# Altium schematic symbol library UWRT Schematic Library.SchLib: 510 symbols (part 1 of 5)
Pins are listed as number, name and electrical type; pins without a type are passive.

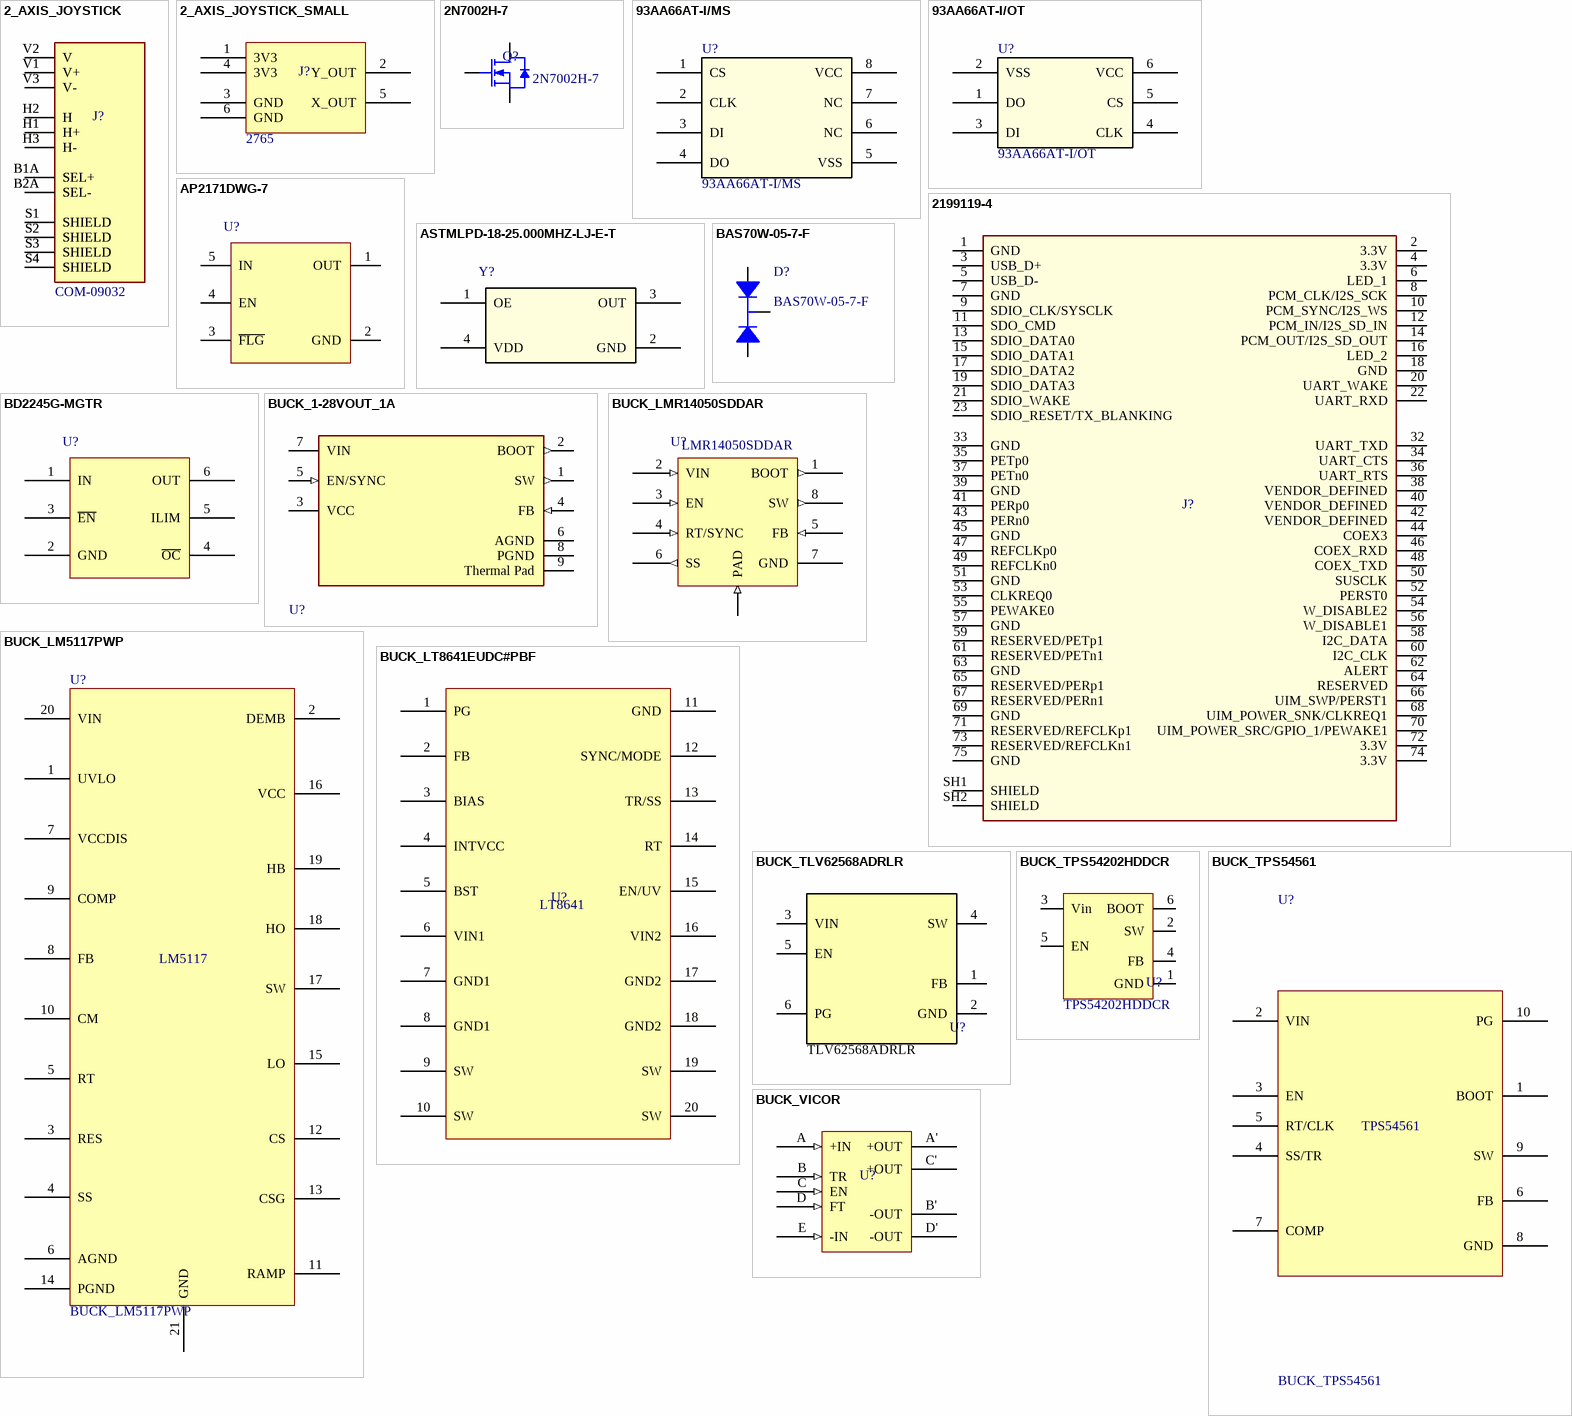
[diagram p0: symbols 2_AXIS_JOYSTICK to BUCK_VICOR]

## 2_AXIS_JOYSTICK
designator J?  Manufacturer Part Number 1: COM-09032
JOYSTICK 10K OHM 2 AXIS TH; Manufacturer 1: SparkFun; Supplier 1: Digi-Key; Supplier Part Number 1: 1568-1526-ND; Verified: No; Mounting Type: TH; Package/Footprint: TH; LCSC Part #: *
footprint 2_AXIS_JOYSTICK
pins: B1A SEL+, B1A SEL+, B2A SEL-, B2A SEL-, H1 H+, H1 H+, H2 H, H2 H, H3 H-, H3 H-, S1 SHIELD, S1 SHIELD, S2 SHIELD, S2 SHIELD, S3 SHIELD, S3 SHIELD, S4 SHIELD, S4 SHIELD, V1 V+, V1 V+, V2 V, V2 V, V3 V-, V3 V-

## 2_AXIS_JOYSTICK_SMALL
designator J?  Manufacturer Part Number 1: 2765  (hidden comment: 2_AXIS_JOYSTICK_SMALL)
JOYSTICK 10K OHM 2 AXIS TH; Manufacturer 1: Adafruit Industries LLC; Supplier 1: Digi-Key; Mounting Type: TH; Supplier Part Number 1: 1528-1730-ND; Package/Footprint: TH
footprint 2_AXIS_JOYSTICK_SMALL
pins: 1 3V3, 2 Y_OUT, 3 GND, 4 3V3, 5 X_OUT, 6 GND

## 2N7002H-7
designator Q?  Manufacturer Part Number 1: 2N7002H-7
MOSFET N-CH 60V 170MA SOT23; Manufacturer 1: Diodes Incorporated; Package/Footprint: SOT-23; Vgs (Max): ±20V; Supplier 1: Digi-Key; Mounting Type: SMD; Supplier Part Number 1: 2N7002H-7DICT-ND; Id: 170mA; Vdss: 60V; Verified: No
footprint SOT23-3 (SOT23, 3-Leads, Body 2.90x2.30mm, Pitch 0.95mm, IPC Medium Density)
pins: 1 GATE, 2 SOURCE, 3 DRAIN

## 93AA66AT-I/MS
designator U?  Manufacturer Part Number 1: 93AA66AT-I/MS
IC EEPROM 4KBIT SPI 2MHZ 8MSOP; Manufacturer 1: Microchip Technology; Supplier 1: Digi-Key; Supplier Part Number 1: 93AA66AT-I/MS-ND
footprint MSOP8_MC_MCH
pins: 1 CS, 2 CLK, 3 DI, 4 DO, 5 VSS, 6 NC, 7 NC, 8 VCC

## 93AA66AT-I/OT
designator U?  Manufacturer Part Number 1: 93AA66AT-I/OT
IC EEPROM 4KBIT SPI 2MHZ SOT23-6; Manufacturer 1: Microchip Technology; Supplier 1: Digi-Key; Supplier Part Number 1: 93AA66AT-I/OTCT-ND
footprint SOT-23-6_MC_MCH
pins: 1 DO, 2 VSS, 3 DI, 4 CLK, 5 CS, 6 VCC

## 2199119-4
designator J?
CONN M.2 FEMALE 67POS 0.020 GOLD; Manufacturer 1: TE Connectivity; Manufacturer Part Number 1: 2199119-4; Number of Positions: 67; Pitch: 0.020" (0.50mm); Supplier 1: Digi-Key; Supplier Part Number 1: A115900CT-ND; Gender: Female
footprint TE_2199119-4
pins: 1 GND, 2 3.3V, 3 USB_D+, 4 3.3V, 5 USB_D-, 6 LED_1, 7 GND, 8 PCM_CLK/I2S_SCK, 9 SDIO_CLK/SYSCLK, 10 PCM_SYNC/I2S_WS, 11 SDO_CMD, 12 PCM_IN/I2S_SD_IN, 13 SDIO_DATA0, 14 PCM_OUT/I2S_SD_OUT, 15 SDIO_DATA1, 16 LED_2, 17 SDIO_DATA2, 18 GND, 19 SDIO_DATA3, 20 UART_WAKE, 21 SDIO_WAKE, 22 UART_RXD, 23 SDIO_RESET/TX_BLANKING, 32 UART_TXD, 33 GND, 34 UART_CTS, 35 PETp0, 36 UART_RTS, 37 PETn0, 38 VENDOR_DEFINED, 39 GND, 40 VENDOR_DEFINED, 41 PERp0, 42 VENDOR_DEFINED, 43 PERn0, 44 COEX3, 45 GND, 46 COEX_RXD, 47 REFCLKp0, 48 COEX_TXD, 49 REFCLKn0, 50 SUSCLK, 51 GND, 52 PERST0, 53 CLKREQ0, 54 W_DISABLE2, 55 PEWAKE0, 56 W_DISABLE1, 57 GND, 58 I2C_DATA, 59 RESERVED/PETp1, 60 I2C_CLK, 61 RESERVED/PETn1, 62 ALERT, 63 GND, 64 RESERVED, 65 RESERVED/PERp1, 66 UIM_SWP/PERST1, 67 RESERVED/PERn1, 68 UIM_POWER_SNK/CLKREQ1, 69 GND, 70 UIM_POWER_SRC/GPIO_1/PEWAKE1, 71 RESERVED/REFCLKp1, 72 3.3V, 73 RESERVED/REFCLKn1, 74 3.3V, 75 GND, SH1 SHIELD, SH2 SHIELD

## AP2171DWG-7
designator U?
IC PWR SWITCH P-CHAN 1:1 SOT25; Manufacturer 1: Diodes Incorporated; Manufacturer Part Number 1: AP2171DWG-7; Voltage - Load: 2.7V - 5.5V; Current - Output (Max): 1A; Rds On (Typ): 95mOhm; Supplier 1: Digi-Key; Supplier Part Number 1: AP2171DWG-7DICT-ND; Package: SOT-25
footprint AP2171DWG-7
pins: 1 OUT, 2 GND, 3 ~{FLG}, 4 EN, 5 IN

## ASTMLPD-18-25.000MHZ-LJ-E-T
designator Y?
MEMS OSC XO 25.0000MHZ LVCMOS; Manufacturer 1: Abracon; Manufacturer Part Number 1: ASTMLPD-18-25.000MHZ-LJ-E-T; Supplier 1: Digi-Key; Supplier Part Number 1: 535-13096-1-ND
footprint ASTMLPE_ABR
pins: 1 OE, 2 GND, 3 OUT, 4 VDD

## BAS70W-05-7-F
designator D?  Manufacturer Part Number 1: BAS70W-05-7-F
DIODE ARRAY SCHOTTKY 70V SOT323; Manufacturer 1: Diodes Incorporated; Diode Configuration: 1 Pair Common Cathode; Current - Average Rectified (Io) (per diode): 70mA; Voltage - Forward (Vf) (Max) @ If: 1V @ 15mA; Current - Reverse Leakage @ Vr: 100nA @ 50V; Supplier 1: Digi-Key; Supplier Part Number 1: BAS70W-05FDICT-ND; Diode Type: Schottky; Package: SOT-323; Voltage - DC Reverse (Vr) (Max): 70V
footprint SOT323_BAS70W-05-7-F
pins: 1, 2, 3

## BD2245G-MGTR
designator U?
IC PWR SWITCH N-CHAN 1:1 6SSOP; Manufacturer 1: Rohm Semiconductor; Manufacturer Part Number 1: BD2245G-MGTR; Voltage - Load: 2.8V - 5.5V; Current - Output (Max): 1.7A; Rds On (Typ): 100mOhm; Supplier 1: Digi-Key; Supplier Part Number 1: BD2245G-MGCT-ND; Package: SOT23-6
footprint BD2245G-MGTR
pins: 1 IN, 2 GND, 3 ~{EN}, 4 ~{OC}, 5 ILIM, 6 OUT

## BUCK_1-28VOUT_1A
designator U?  (value not drawn)
IC REG BUCK ADJUSTABLE 1A 8SOPWR; Manufacturer 1: Texas Instruments; Manufacturer Part Number 1: LMR23610ADDAR; Supplier 1: Digi-Key; Supplier Part Number 1: 296-47267-1-ND
footprint 8-SO PowerPad
pins: 1 SW (out), 2 BOOT (out), 3 VCC (power), 4 FB (in), 5 EN/SYNC (in), 6 AGND (power), 7 VIN (power), 8 PGND (power), 9 Thermal Pad (power)

## BUCK_LM5117PWP
designator U?
IC REG CTRLR BUCK 20TSSOP; Manufacturer 1: Texas Instruments; Manufacturer Part Number 1: LM5117PMH/NOPB; Package/Footprint: 20-HTSSOP; Mounting Type: SMD; Supplier 1: Digi-Key; Supplier Part Number 1: 296-41310-1-ND
footprint HTSSOP
pins: 1 UVLO, 2 DEMB, 3 RES, 4 SS, 5 RT, 6 AGND, 7 VCCDIS, 8 FB, 9 COMP, 10 CM, 11 RAMP, 12 CS, 13 CSG, 14 PGND, 15 LO, 16 VCC, 17 SW, 18 HO, 19 HB, 20 VIN, 21 GND
text: LM5117

## BUCK_LMR14050SDDAR
designator U?  Manufacturer Part Number 1: LMR14050SDDAR  (hidden comment: BUCK_LMR14050SDDAR)
IC REG BUCK ADJUSTABLE 5A 8SOPWR; Manufacturer 1: Texas Instruments; Output Configuration: Positive; Quiescent Current: 40uA; Package/Footprint: 8-PowerSOIC; Supplier 1: Digi-Key; Mounting Type: SMD; Output Type: Adjustable; Supplier Part Number 1: 296-44322-1-ND; LCSC Part #: C155484
footprint 8-PowerSOIC (Texas Instruments 8-SO PowerPad)
pins: 1 BOOT (out), 2 VIN (in), 3 EN (in), 4 RT/SYNC (in), 5 FB (in), 6 SS (out), 7 GND (power), 8 SW (out), 9 PAD (in) "Thermal Pad, connect to GND"

## BUCK_LT8641EUDC#PBF
designator U?  (value not drawn)
IC REG BUCK ADJ 3.5A 20QFN; Manufacturer 1: Analog Devices Inc.; Package/Footprint: 20-QFN; Supplier 1: Digi-Key; Supplier Part Number 1: LT8641EUDC#PBF-ND; Manufacturer Part Number 1: LT8641EUDC#PBF; Mounting Type: SMD; LCSC: *
footprint LT8641EUDC#TRPBF (Buck Converter)
pins: 1 PG, 2 FB, 3 BIAS, 4 INTVCC, 5 BST, 6 VIN1, 7 GND1, 8 GND1, 9 SW, 10 SW, 11 GND, 12 SYNC/MODE, 13 TR/SS, 14 RT, 15 EN/UV, 16 VIN2, 17 GND2, 18 GND2, 19 SW, 20 SW
text: LT8641

## BUCK_TLV62568ADRLR
designator U?  Manufacturer Part Number 1: TLV62568ADRLR  (hidden comment: BUCK_TLV62568ADRLR)
IC REG BUCK ADJUSTABLE 2A SOT563; Manufacturer 1: Texas Instruments; Package/Footprint: SOT-563; Supplier 1: Digi-Key; Supplier Part Number 1: 296-50407-1-ND; Mounting Type: SMD; Verified: No
footprint SOT50P160X60-6N
pins: 1 FB, 2 GND (power), 3 VIN (power), 4 SW (power), 5 EN, 6 PG (oc)

## BUCK_TPS54202HDDCR
designator U?  Manufacturer Part Number 1: TPS54202HDDCR  (hidden comment: BUCK_TPS54202HDDCR)
IC REG BUCK ADJ 2A TSOT23-6; Manufacturer 1: Texas Instruments; Package/Footprint: TSOT-23-6; Supplier 1: Digi-Key; Verified: No; Mounting Type: SMD; Supplier Part Number 1: 296-44396-1-ND; LCSC Part #: *
footprint SOT23-6 (SOT23, 6-Leads, Body 3.05x1.75mm, Pitch 0.95mm, IPC Medium Density)
pins: 1 GND, 2 SW, 3 Vin, 4 FB, 5 EN, 6 BOOT

## BUCK_TPS54561
designator U?
IC REG BCK SPLIT RAIL ADJ 10WSON; Manufacturer 1: Texas Instruments; Manufacturer Part Number 1: TPS54561DPRR; Package/Footprint: 10-WDFN; Supplier 1: Digi-Key; Supplier Part Number 1: 296-40803-1-ND; Mounting Type: SMD
footprint TPS54561DPRR (Buck Converter)
pins: 1 BOOT, 2 VIN, 3 EN, 4 SS/TR, 5 RT/CLK, 6 FB, 7 COMP, 8 GND, 9 SW, 10 PG
text: TPS54561

## BUCK_VICOR
designator U?  (value not drawn)
VICOR DC DC CONVERTER 5V 80W; Manufacturer 1: Vicor Corporation; Manufacturer Part Number 1: DCM3623T50T0680T00; Package/Footprint: TH; Supplier 1: Digi-Key; Supplier Part Number 1: 1102-5585-ND; Mounting Type: TH
footprint DCM3623T50T0680 (DC to DC Converter)
pins: A +IN (in), A' +OUT, B TR (in), B' -OUT, C EN (in), C' +OUT, D FT (in), D' -OUT, E -IN (in)

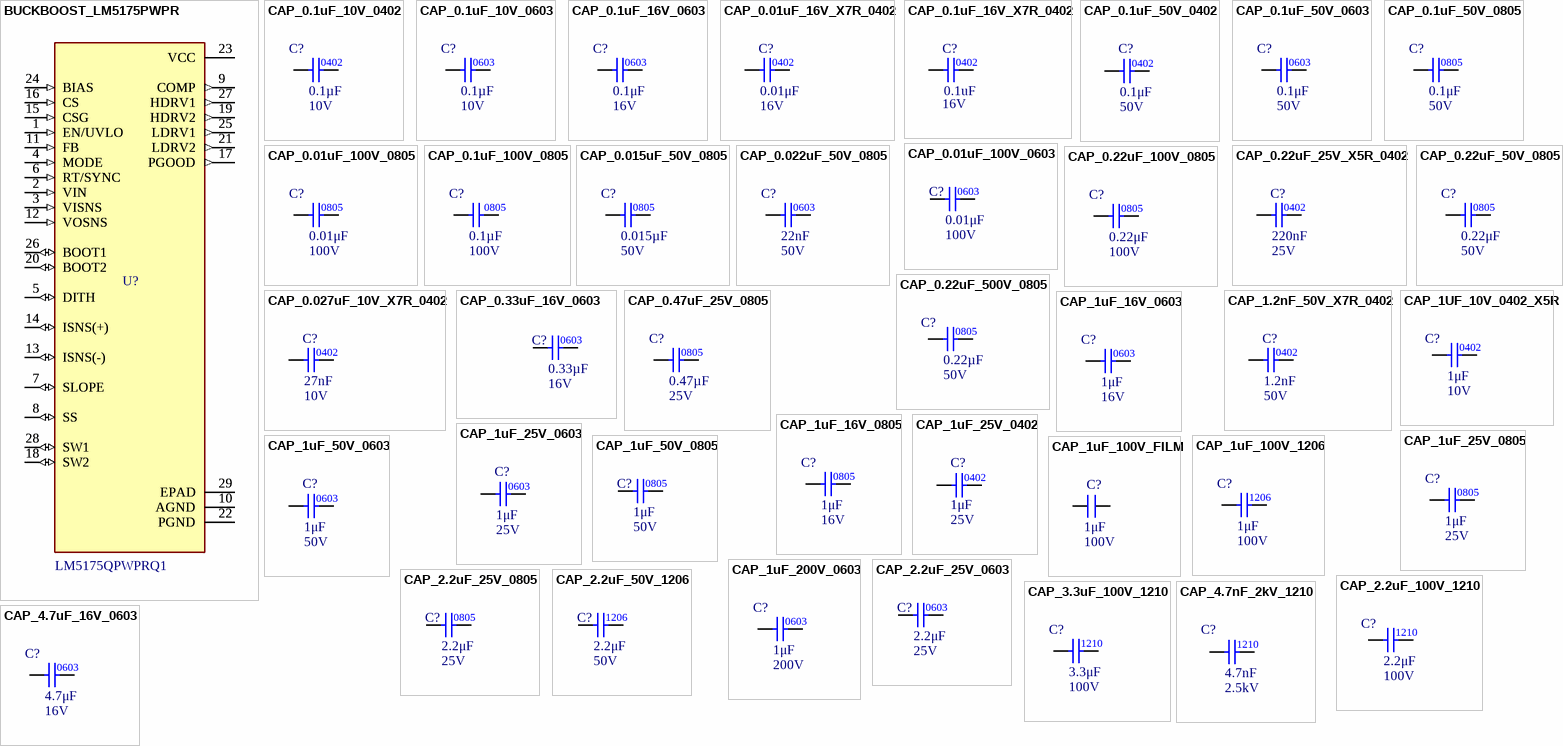
[diagram p1: symbols BUCKBOOST_LM5175PWPR to CAP_4.7uF_16V_0603]

## BUCKBOOST_LM5175PWPR
designator U?  Manufacturer Part Number 1: LM5175QPWPRQ1  (hidden comment: BUCKBOOST_LM5175PWPR)
IC REG CTRLR BUCK-BOOST 28HTSSOP; Manufacturer 1: Texas Instruments; Supply Voltage: 3.5V - 42V; Switching Frequency: 100kHz - 600kHz; Synchronous Rectifier: Yes; Control Features: Enable, Frequency Control, Power Good, Soft Start; Package/Footprint: 28-PowerTSSOP; Number of Outputs: 1; Supplier 1: Digi-Key; Supplier Part Number 1: 296-44175-1-ND; Clock Sync: Yes; Operating Temperature: -40°C - 150°C (TJ); Mounting Type: SMD; LCSC Part #: C113356
footprint IC_TPS61196PWPRQ1
pins: 1 EN/UVLO (in), 1 EN/UVLO (in), 2 VIN (in), 2 VIN (in), 3 VISNS (in), 3 VISNS (in), 4 MODE (in), 4 MODE (in), 5 DITH (io), 5 DITH (io), 6 RT/SYNC (in), 6 RT/SYNC (in), 7 SLOPE (io), 7 SLOPE (io), 8 SS (io), 8 SS (io), 9 COMP (out), 9 COMP (out), 10 AGND (power), 10 AGND (power), 11 FB (in), 11 FB (in), 12 VOSNS (in), 12 VOSNS (in), 13 ISNS(-) (io), 13 ISNS(-) (io), 14 ISNS(+) (io), 14 ISNS(+) (io), 15 CSG (in), 15 CSG (in), 16 CS (in), 16 CS (in), 17 PGOOD (out), 17 PGOOD (out), 18 SW2 (io), 18 SW2 (io), 19 HDRV2 (out), 19 HDRV2 (out), 20 BOOT2 (io), 20 BOOT2 (io), 21 LDRV2 (out), 21 LDRV2 (out), 22 PGND (power), 22 PGND (power), 23 VCC (power), 23 VCC (power), 24 BIAS (in), 24 BIAS (in), 25 LDRV1 (out), 25 LDRV1 (out), 26 BOOT1 (io), 26 BOOT1 (io), 27 HDRV1 (out), 27 HDRV1 (out), 28 SW1 (io), 28 SW1 (io), 29 EPAD (power), 29 EPAD (power)

## CAP_0.1uF_10V_0402
designator C?  value 0.1µF  Voltage Rating: 10V
CAP CER 0.1UF 10V X7R 0402; Manufacturer 1: Murata Electronics; Manufacturer Part Number 1: GRM155R71A104KA01D; Package/Footprint: 0402; Supplier 1: Digi-Key; Supplier Part Number 1: 490-6321-1-ND
footprint CAP0402 (Chip Capacitor, Body 1x0.5mm, Height 0.35mm, IPC Medium Density)
pins: 1, 2

## CAP_0.1uF_10V_0603
designator C?  value 0.1µF  Voltage Rating: 10V
CAP CER 0.1UF 10V X7R 0402; Manufacturer 1: Murata Electronics; Manufacturer Part Number 1: GRM155R71A104KA01D; Package/Footprint: 0402; Supplier 1: Digi-Key; Supplier Part Number 1: 490-6321-1-ND
footprint CAP0603
pins: 1, 2
text: 0603

## CAP_0.1uF_16V_0603
designator C?  value 0.1μF  Voltage Rating: 16V
CAP CER 0.1UF 16V X7R 0603; Manufacturer Part Number 1: CC0603KRX7R7BB104; Manufacturer 1: Yageo; Package: 0603; Supplier Part Number 1: 311-1088-1-ND; Supplier 1: Digi-Key; Dielectric: X7R
footprint CAP0603
pins: 1, 2

## CAP_0.01uF_16V_X7R_0402
designator C?  Capacitance: 0.01μF  Voltage Rating: 16V
CAP CER 0.01uF 16V X7R 0402; Manufacturer: KEMET; Manufacturer Part Number: C0402C103J4RACTU; Supplier 1: Digi-Key; Supplier Part Number 1: 399-1039-1-ND; Mounting Type: Surface Mount
pins: 1, 2
text: 0402

## CAP_0.1uF_16V_X7R_0402
designator C?  Voltage Rating: 16V  Capacitance: 0.1uF
CAP CER 0.1UF 16V X7R 0402; Supplier 1: Digi-Key; Mounting Type: Surface Mount; Package: 0402
footprint CAP0402 (Chip Capacitor, Body 1x0.5mm, Height 0.35mm, IPC Medium Density)
pins: 1, 2

## CAP_0.1uF_50V_0402
designator C?  value 0.1μF  Voltage Rating: 50V
CAP CER 0.1UF 50V X7R 0402; Manufacturer Product Number 1: C1005X7R1H104M050BE; Manufacturer 1: TDK Corporation; Package: 0402; Supplier 1: Digi-Key; Supplier Part Number 1: 445-173645-1-ND
footprint CAP0402 (Chip Capacitor, Body 1x0.5mm, Height 0.35mm, IPC Medium Density)
pins: 1, 2

## CAP_0.1uF_50V_0603
designator C?  value 0.1μF  Voltage Rating: 50V
CAP CER 0.1UF 50V X7R 0603; Manufacturer Part Number 1: CC0603KRX7R9BB104; Manufacturer 1: Yageo; Package/Footprint: 0603; Supplier Part Number 1: 311-1344-1-ND; Supplier 1: Digi-Key; Mounting Type: SMD; Dielectric: X7R
footprint CAP0603
pins: 1, 2

## CAP_0.1uF_50V_0805
designator C?  value 0.1μF  Voltage Rating: 50V
CAP CER 0.1UF 50V X7R 0805; Manufacturer 1: Murata Electronics; Manufacturer Part Number 1: GCM21BR71H104KA37K; Package/Footprint: 0805; Mounting Type: SMD; Supplier 1: Digi-Key; Supplier Part Number 1: 490-8049-1-ND; Dielectric: X7R; LCSC Part #: C49678
footprint CAP2012
pins: 1, 2

## CAP_0.01uF_100V_0603
designator C?  value 0.01μF  Voltage Rating: 100V
CAP CER 0.01uF 100V X7R 0603; Manufacturer Part Number 1: GCM188R72A103KA37J; Manufacturer 1: Murata Electronics; Supplier Part Number 1: 490-8028-1-ND; Supplier 1: Digi-Key; Dielectric: X7R
pins: 1, 2
text: 0603

## CAP_0.01uF_100V_0805
designator C?  value 0.01μF  Voltage Rating: 100V
CAP CER 0.01uF 100V X7R 0805; Manufacturer 1: AVX Corporation; Manufacturer Part Number 1: 08051C103KAT2A; Mounting Type: SMD; Supplier 1: Digi-Key; Supplier Part Number 1: 478-1358-1-ND; Package: 0805; LCSC Part #: C1710; Dielectric: X7R
pins: 1, 2

## CAP_0.1uF_100V_0805
designator C?  value 0.1µF  Voltage Rating: 100V
CAP CER 0.1UF 100V X7R 0805; Manufacturer 1: TDK Corporation; Manufacturer Part Number 1: C2012X7R2A104K125AA; Package: 0805; Supplier 1: Digi-Key; Supplier Part Number 1: 445-1418-1-ND
footprint CAP0805 (Chip Capacitor, Body 2.0x1.2mm, Height 0.45mm, IPC Medium Density)
pins: 1, 2

## CAP_0.015uF_50V_0805
designator C?  value 0.015µF  Voltage Rating: 50V
CAP CER 0.015UF 50V C0G 0805; Manufacturer 1: TDK Corporation; Manufacturer Part Number 1: CGA4F2C0G1H153J085AA; Package: 0805; Supplier 1: Digi-Key; Supplier Part Number 1: 445-6948-1-ND
pins: 1, 2

## CAP_0.22uF_25V_X5R_0402
designator C?  Capacitance: 220nF  Rated DC Voltage (URdc): 25V
CAP CER 0.22UF 25V X5R 0402; Manufacturer: Yageo; Manufacturer Part Number: CC0402KRX5R8BB224; Supplier 1: Digi-Key; Supplier Part Number 1: 311-3341-1-ND; Mount: Surface Mount; Size Code: 0402
footprint CAP0402 (Chip Capacitor, Body 1x0.5mm, Height 0.35mm, IPC Medium Density)
pins: 1, 2

## CAP_0.022uF_50V_0805
designator C?  value 22nF  Voltage Rating: 50V  (hidden comment: CAP_0.022uF_50V_0805)
CAP CER 0.022UF 50V C0G 0805; Manufacturer 1: TDK Corporation; Manufacturer Part Number 1: CGA4J2C0G1H223J125AA; Package/Footprint: 2012; Mounting Type: SMD; Supplier 1: Digi-Key; Supplier Part Number 1: 445-6949-1-ND; LCSC Part #: C1729; Dielectric: C0G
footprint CAP2012
pins: 1, 2
text: 0603

## CAP_0.22uF_50V_0805
designator C?  value 0.22μF  Voltage Rating: 50V
CAP CER 0.22UF 50V X7R 0805; Manufacturer Part Number 1: C0805C224K5RACTU; Manufacturer 1: KEMET; Supplier Part Number 1: 399-3491-1-ND; Supplier 1: Digi-Key; Mounting Type: SMD; Package: 0805; Dielectric: X7R; LCSC Part #: C5378
footprint CAP2012
pins: 1, 2

## CAP_0.22uF_100V_0805
designator C?  value 0.22μF  Voltage Rating: 100V
CAP CER 0.22UF 100V X7R 0805; Manufacturer Part Number 1: HMJ212BB7224KGHT; Manufacturer 1: Taiyo Yuden; Mounting Type: SMD; Package: 0805; Dielectric: X7R; Supplier 1: Digi-Key; Supplier Part Number 1: 587-4221-1-ND
footprint CAP2012
pins: 1, 2

## CAP_0.22uF_500V_0805
designator C?  Voltage Rating: 50V  Capacitance: 0.22µF
CAP CER 0.22UF 50V X7R 0805; Manufacturer 1: Murata; Manufacturer Part Number 1: GRM21BR71H224MA01L; Dielectric: X7R; Supplier 1: Digi-Key; Supplier Part Number 1: 490-1671-1-ND; Package: 0805; Mounting Type: SMD
footprint CAP2012
pins: 1, 2

## CAP_0.027uF_10V_X7R_0402
designator C?  Capacitance: 27nF  Rated DC Voltage (URdc): 10V
CAP CER 0.027UF 10V X7R 0402; Manufacturer: Yageo; Manufacturer Part Number: CC0402KRX7R6BB273; Supplier 1: Digi-Key; Supplier Part Number 1: 311-3794-1-ND; Mounting Type: Surface Mount; Temperature Characteristics Code: X7R; Package: 0402
footprint CAP0402 (Chip Capacitor, Body 1x0.5mm, Height 0.35mm, IPC Medium Density)
pins: 1, 2

## CAP_0.33uF_16V_0603
designator C?  value 0.33µF  Voltage Rating: 16V
CAP CER 0.33UF 16V X7R 0603; Manufacturer Part Number 1: GCM188R71C334KA37D; Manufacturer 1: Murata Electronics North America; Supplier Part Number 1: 490-6050-1-ND; Supplier 1: Digi-Key; Dielectric: X7R
footprint CAP0603
pins: 1, 2
text: 0603

## CAP_0.47uF_25V_0805
designator C?  value 0.47µF  Voltage Rating: 25V
CAP CER 0.47UF 25V X5R 0805; Manufacturer 1: KEMET; Manufacturer Part Number 1: C0805C474K3PAC7800; Package: 0805; Supplier 1: Digi-Key; Supplier Part Number 1: 399-15508-1-ND
footprint CAP0805 (Chip Capacitor, Body 2.0x1.2mm, Height 0.45mm, IPC Medium Density)
pins: 1, 2

## CAP_1.2nF_50V_X7R_0402
designator C?  value 1.2nF  Voltage Rating: 50V
CAP CER 1200PF 50V X7R 0402; Manufacturer: Yageo; Manufacturer Part Number: CC0402JRX7R9BB122; Supplier 1: Digi-Key; Supplier Part Number 1: 311-3762-1-ND; Dielectric: X7R; Package: 0402
footprint CAP0402 (Chip Capacitor, Body 1x0.5mm, Height 0.35mm, IPC Medium Density)
pins: 1, 2

## CAP_1UF_10V_0402_X5R
designator C?  Capacitance: 1μF  Rated DC Voltage (URdc): 10V
CAP CER 1UF 10V X5R 0402; Manufacturer: Kyocera AVX; Manufacturer Part Number: 0402ZD105MAT2A; Supplier 1: Digi-Key; Supplier Part Number 1: 478-5768-1-ND; Mounting Type: Surface Mount; Package: 0402; Temperature Characteristics Code: X5R; ComponentLink7URL: https://datasheet.ciiva.com/11531/cx5r-11531784.pdf?src-supplier=Avnet; ComponentLink7Description: https://datasheet.ciiva.com/11531/cx5r-11531784.pdf?src-supplier=Avnet
pins: 1, 2

## CAP_1uF_16V_0603
designator C?  value 1μF  Voltage Rating: 16V
CAP CER 1UF 16V Y5V 0603; Manufacturer 1: Yageo; Manufacturer Part Number 1: CC0603ZRY5V7BB105; Supplier Part Number 1: 311-1372-1-ND; Supplier 1: Digi-Key; Mounting Type: SMD; Package: 0603; Dielectric: Y5V
footprint CAP0603
pins: 1, 2

## CAP_1uF_16V_0805
designator C?  value 1μF  Voltage Rating: 16V
CAP CER 1UF 16V X7R 0805; Manufacturer 1: Yageo; Manufacturer Part Number 1: CC0805KKX7R7BB105; Mounting Type: SMD; Supplier 1: Digi-Key; Supplier Part Number 1: 311-1365-1-ND; Package: 0805; Dielectric: X7R
pins: 1, 2

## CAP_1uF_25V_0402
designator C?  value 1μF  Voltage: 25V
CAP CER 1UF 25V X5R 0402; Manufacturer 1: TDK Corporation; Manufacturer Part Number 1: C1005X5R1E105K050BE; Supplier 1: Digi-Key; Supplier Part Number 1: 445-175215-1-ND; Package: 0402
footprint CAP0402 (Chip Capacitor, Body 1x0.5mm, Height 0.35mm, IPC Medium Density)
pins: 1, 2

## CAP_1uF_25V_0603
designator C?  value 1μF  Voltage Rating: 25V
CAP CER 1UF 25V X5R 0603; Manufacturer 1: Samsung; Manufacturer Part Number 1: CL10A105KA8NNNC; Supplier 1: Digi-Key; Mounting Type: SMD; Package: 0603; Supplier Part Number 1: 1276-1102-1-ND; Dielectric: X5R
footprint CAP0603
pins: 1, 2

## CAP_1uF_25V_0805
designator C?  value 1μF  Voltage Rating: 25V
CAP CER 1UF 25V X7R 0805; Manufacturer 1: Murata; Manufacturer Part Number 1: GCM21BR71E105KA56L; Supplier 1: Digi-Key; Supplier Part Number 1: 490-4785-1-ND; Dielectric: X7R
footprint CAP2012
pins: 1, 2
text: 0805

## CAP_1uF_50V_0603
designator C?  value 1μF  Voltage Rating: 50V
CAP CER 1UF 50V X6S 0603; Manufacturer Part Number 1: C1608X6S1H105K080AC; Manufacturer 1: TDK Corporation; Supplier Part Number 1: 445-7424-1-ND; Supplier 1: Digi-Key; Dielectric: X6S
footprint CAP0603
pins: 1, 2
text: 0603

## CAP_1uF_50V_0805
designator C?  value 1μF  Voltage Rating: 50V  (hidden comment: CAP_1uF_50V_0805)
CAP CER 1UF 50V X7R 0805; Manufacturer Part Number 1: CL21B105KBFNNNG; Manufacturer 1: Samsung Electro-Mechanics; Supplier Part Number 1: 1276-6470-1-ND; Supplier 1: Digi-Key; Mounting Type: SMD; LCSC Part #: C28323; Package: 0805
footprint CAP2012
pins: 1, 2

## CAP_1uF_100V_1206
designator C?  value 1μF  Voltage Rating: 100V
CAP CER 1UF 100V X7R 1206; Supplier 1: Digi-Key; Mounting Type: SMD; Package: 1206; Supplier Part Number 1: 490-16468-1-ND
footprint CAPC3216X190X50NL20T25 (Chip Capacitor, 2-Leads, Body 3.20x1.60mm, IPC Medium Density)
pins: 1, 2

## CAP_1uF_100V_FILM
designator C?  value 1μF  Voltage Rating: 100V
FIX CAP FILM 1UF 100V RADIAL; Manufacturer 1: WIMA; Manufacturer Part Number 1: MKS2D031001A00MSSD; Dielectric: PET; Supplier 1: Digi-Key; Supplier Part Number 1: 1928-1656-ND
footprint MKS2D031001A00MSSD
pins: 1, 2

## CAP_1uF_200V_0603
designator C?  value 1μF  Voltage Rating: 200V
CAP CER 1UF 35V X5R 0603; Manufacturer 1: KEMET; Manufacturer Part Number 1: C0603C103K2REC7867; Manufacturer: Taiyo Yuden; Supplier 1: Digi-Key; Supplier Part Number 1: 399-14173-1-ND; Dielectric: X5R; Mounting Type: Surface Mount; Package: 0603
pins: 1, 2

## CAP_2.2uF_25V_0603
designator C?  value 2.2μF  Voltage Rating: 25V
CAP CER 2.2UF 25V X5R 0603; Manufacturer Part Number 1: C1608X5R1E225K080AB; Manufacturer 1: TDK Corporation; Dielectric: 5; Supplier Part Number 1: 445-5964-1-ND; Supplier 1: Digi-Key
footprint CAP0603
pins: 1, 2
text: 0603

## CAP_2.2uF_25V_0805
designator C?  value 2.2μF  Voltage Rating: 25V
CAP CER 2.2UF 25V X7R 0805; Manufacturer Part Number 1: CL21B225KAFNNWE; Manufacturer 1: Samsung Electro-Mechanics; Supplier Part Number 1: 1276-2955-1-ND; Supplier 1: Digi-Key; Mounting Type: SMD; Package: 0805; LCSC Part #: C49217
footprint CAP2012
pins: 1, 2

## CAP_2.2uF_50V_1206
designator C?  value 2.2μF  Voltage Rating: 50V
CAP CER 2.2UF 50V X7R 1206; Manufacturer 1: Murata Electronics; Manufacturer Part Number 1: GCM31CR71H225KA55L; Supplier Part Number 1: 490-4796-1-ND; Supplier 1: Digi-Key; Dielectric: X7R
footprint CAP1206 (Chip Capacitor, Body 3.2x1.6mm, Height 0.55mm, IPC Medium Density)
pins: 1, 2
text: 1206

## CAP_2.2uF_100V_1210
designator C?  value 2.2μF  Voltage Rating: 100V
CAP CER 2.2UF 100V X7R 1210; Manufacturer 1: Taiyo Yuden; Manufacturer Part Number 1: HMK325B7225KMHP; Dielectric: X7R; Supplier 1: Digi-Key; Supplier Part Number 1: 587-5396-1-ND
footprint CAP1210
pins: 1, 2
text: 1210

## CAP_3.3uF_100V_1210
designator C?  value 3.3μF  Voltage Rating: 100V
CAP CER 3.3UF 100V X7S 1210; Manufacturer 1: TDK Corporation; Manufacturer Part Number 1: C3225X7S2A335K200AB; Package/Footprint: 1210; Supplier 1: Digi-Key; Supplier Part Number 1: 445-5209-1-ND
footprint CAP1210
pins: 1, 2

## CAP_4.7nF_2kV_1210
designator C?  value 4.7nF  Voltage Rating: 2.5kV
CAP CER 4700PF 2KV X7R 1210; Manufacturer 1: KEMET; Manufacturer Part Number 1: C1210C472KGRACTU; Supplier 1: Digi-Key; Dielectric: X7R; Capacitance: 4.7nF; Supplier Part Number 1: 399-7104-1-ND
footprint CAP1210
pins: 1, 2
1 alternate drawing of the same symbol
text: 1210

## CAP_4.7uF_16V_0603
designator C?  value 4.7μF  Voltage Rating: 16V
CAP CER 4.7UF 16V X6S 0603; Manufacturer Part Number 1: GRM188C81C475KE11D; Manufacturer 1: Murata Electronics; Supplier Part Number 1: 490-13362-1-ND; Supplier 1: Digi-Key; Mounting Type: SMD; Package: 0603; Dielectric: X6S
footprint CAP0603
pins: 1, 2

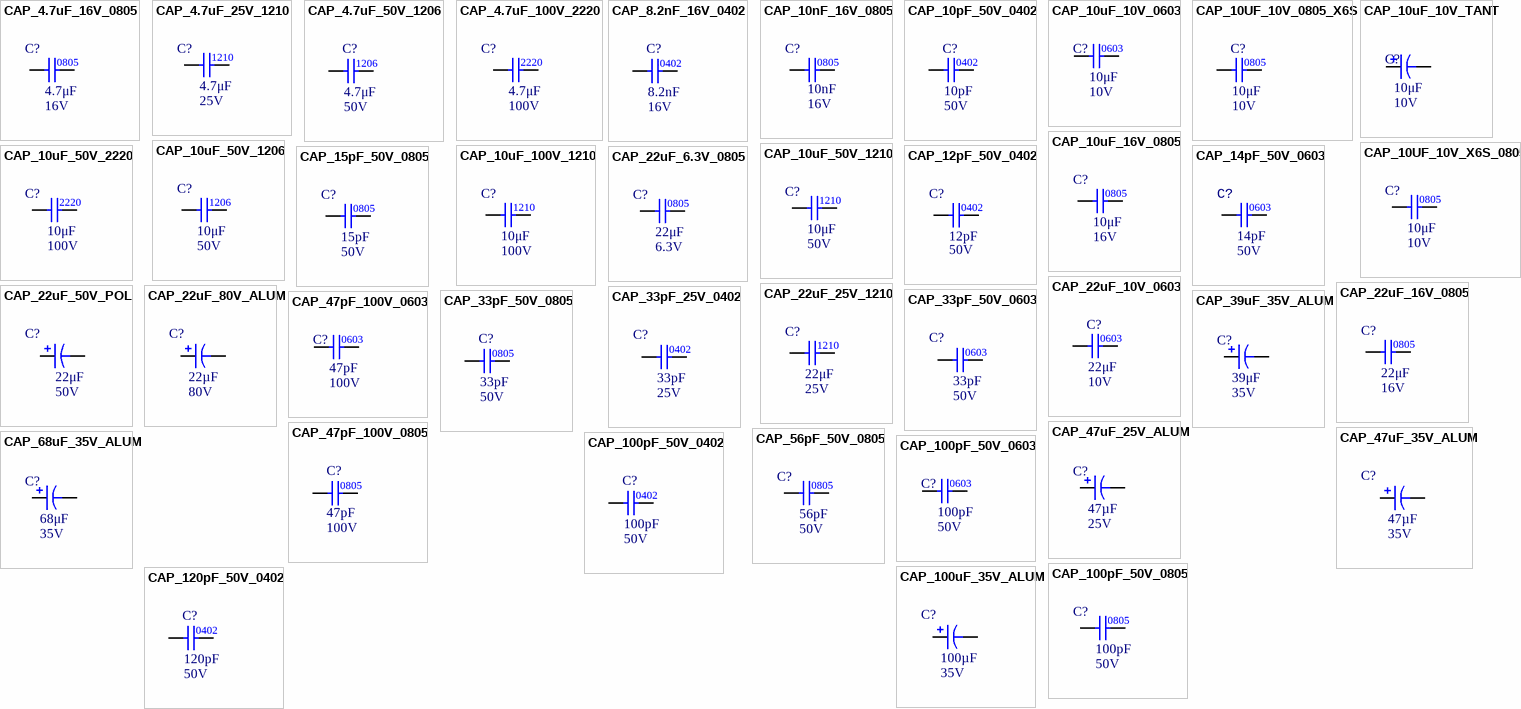
[diagram p2: symbols CAP_4.7uF_16V_0805 to CAP_120pF_50V_0402]

## CAP_4.7uF_16V_0805
designator C?  value 4.7μF  Voltage Rating: 16V
CAP CER 4.7UF 16V X5R 0805; Manufacturer 1: Samsung Electro-Mechanics; Manufacturer Part Number 1: CL21A475KOFNNNE; Mounting Type: SMD; Supplier 1: Digi-Key; Supplier Part Number 1: 1276-1065-1-ND; Package: 0805; LCSC Part #: C1779; Dielectric: X5R
pins: 1, 2

## CAP_4.7uF_25V_1210
designator C?  value 4.7μF  Voltage Rating: 25V
CAP CER 4.7UF 25V X8L 1210; Manufacturer 1: Murata Electronics; Manufacturer Part Number 1: GCJ32EL81E475KA01L; Supplier 1: Digi-Key; Supplier Part Number 1: 490-16465-1-ND; Dielectric: X8L
footprint CAPC3225X280N
pins: 1, 2
text: 1210

## CAP_4.7uF_50V_1206
designator C?  value 4.7μF  Voltage Rating: 50V
CAP CER 4.7UF 50V X7R 1206; Manufacturer 1: Murata; Manufacturer Part Number 1: GRM31CR71H475KA12L; Supplier 1: Digi-Key; Mounting Type: SMD; Supplier Part Number 1: 490-6521-1-ND; Dielectric: X7R; Package: 1206
footprint CAP1206 (Chip Capacitor, Body 3.2x1.6mm, Height 0.55mm, IPC Medium Density)
pins: 1, 2

## CAP_4.7uF_100V_2220
designator C?  value 4.7μF  Voltage Rating: 100V
CAP CER 4.7UF 100V X7R 2220; Manufacturer 1: TDK Corporation; Manufacturer Part Number 1: C5750X7R2A475M230KA; Supplier Part Number 1: 445-1450-1-ND; Supplier 1: Digi-Key; Dielectric: X7R
footprint CAPC5750X7R2A
pins: 1, 2
text: 2220

## CAP_8.2nF_16V_0402
designator C?  Capacitance: 8.2nF  Voltage: 16V
CAP CER 8200PF 16V X7R 0402; Manufacturer 1: Yageo; Manufacturer Part Number 1: CC0402KRX7R7BB822; Supplier 1: Digi-Key; Supplier Part Number 1: 311-1041-1-ND; Package: 0402
footprint CAP0402 (Chip Capacitor, Body 1x0.5mm, Height 0.35mm, IPC Medium Density)
pins: 1, 2

## CAP_10nF_16V_0805
designator C?  value 10nF  Voltage Rating: 16V
CAP CER 10000PF 16V X7R 0805; Manufacturer 1: Yageo; Manufacturer Part Number 1: AC0805KRX7R7BB103; Supplier 1: Digi-Key; Supplier Part Number 1: 311-3161-1-ND
footprint CAP2012
pins: 1, 2
text: 0805

## CAP_10pF_50V_0402
designator C?  value 10pF  Voltage Rating: 50V
CAP CER 10PF 50V C0G/NPO 0402; Manufacturer 1: Yageo; Package: 0402; Supplier 1: Digi-Key; Supplier Part Number 1: 311-1014-1-ND; Manufacturer Part Number 1: CAP CER 10PF 50V C0G/NPO 0402
footprint CAP0402 (Chip Capacitor, Body 1x0.5mm, Height 0.35mm, IPC Medium Density)
pins: 1, 2

## CAP_10uF_10V_0603
designator C?  value 10μF  Voltage Rating: 10V
CAP CER 10UF 10V X5R 0603; Manufacturer Part Number 1: CC0603MRX5R6BB106; Manufacturer 1: Yageo; Supplier Part Number 1: 311-1817-1-ND; Supplier 1: Digi-Key; Dielectric: X5R
footprint CAP0603
pins: 1, 2
text: 0603

## CAP_10UF_10V_0805_X6S
designator C?  value 10μF  Voltage: 10V
CAP CER 10UF 10V X6S 0805; Manufacturer: Taiyo Yuden; Manufacturer Part Number: LMK212AC6106MD-T; Supplier 1: Digi-Key; Supplier Part Number 1: 587-6337-1-ND; Package: 0805
footprint CAP0805 (Chip Capacitor, Body 2.0x1.2mm, Height 0.45mm, IPC Medium Density)
pins: 1, 2

## CAP_10uF_10V_TANT
designator C?  value 10μF  Voltage Rating: 10V
CAP TANT 10UF 20% 10V 1411; Manufacturer Part Number 1: F971A106MBAHT3; Manufacturer 1: AVX Corporation; Supplier Part Number 1: 478-12047-1-ND; Supplier 1: Digi-Key
footprint AVX-CAPC3528_V (SMT Capacitor, 2 Leads, Body 3.5x2.8mm)
pins: 1, 2

## CAP_10UF_10V_X6S_0805
designator C?  value 10μF  Voltage Rating: 10V
CAP CER 10UF 10V X6S 0805; Manufacturer 1: Taiyo Yuden; Manufacturer Part Number 1: LMK212AC6106MD-T; Supplier 1: Digi-Key; Supplier Part Number 1: 587-6337-1-ND; Package: 0805
pins: 1, 2

## CAP_10uF_16V_0805
designator C?  value 10μF  Voltage Rating: 16V
CAP CER 10UF 16V X5R 0805; Manufacturer 1: Yageo; Manufacturer Part Number 1: CC0805KKX5R7BB106; Package/Footprint: 0805; Mounting Type: SMD; Supplier 1: Digi-Key; Supplier Part Number 1: 311-1865-1-ND; Dielectric: X5R
footprint CAP2012
pins: 1, 2

## CAP_10uF_50V_1206
designator C?  value 10μF  Voltage Rating: 50V
CAP CER 10UF 50V X5R 1206; Manufacturer 1: Murata; Manufacturer Part Number 1: GRT31CR61H106KE01L; Supplier Part Number 1: 490-12456-1-ND; Supplier 1: Digi-Key; Mounting Type: SMD; Package: 1206; Dielectric: X5R
footprint CAP1206 (Chip Capacitor, Body 3.2x1.6mm, Height 0.55mm, IPC Medium Density)
pins: 1, 2

## CAP_10uF_50V_1210
designator C?  value 10μF  Voltage Rating: 50V
CAP CER 10UF 50V X7R 1210; Manufacturer 1: Murata Electronics; Manufacturer Part Number 1: GRM32ER71H106MA12L; Dielectric: X7R; Supplier 1: Digi-Key; Supplier Part Number 1: 490-12775-1-ND
footprint CAP1210
pins: 1, 2
text: 1210

## CAP_10uF_50V_2220
designator C?  value 10μF  Voltage Rating: 100V
CAP CER 10UF 100V X7S 2220; Manufacturer 1: TDK Corporation; Manufacturer Part Number 1: C5750X7S2A106M230KB; Dielectric: X7R; Supplier 1: Digi-Key; Supplier Part Number 1: 445-5212-1-ND
footprint C5750X7S2A106M230KB
pins: 1, 2
text: 2220

## CAP_10uF_100V_1210
designator C?  value 10μF  Voltage Rating: 100V
CAP CER 10uF 100V X7S 10% 1210; Manufacturer 1: Murata; Manufacturer Part Number 1: GRM32EC72A106KE05L; Supplier 1: Digi-Key; Mounting Type: SMD; Supplier Part Number 1: 490-16266-1-ND; Package: 1210; Dielectric: X7S
footprint CAP1210
pins: 1, 2

## CAP_12pF_50V_0402
designator C?  value 12pF  Voltage Rating: 50V
CAP CER 12PF 50V C0G 0402; Manufacturer Part Number 1: CC0603KRX7R9BB104; Manufacturer 1: TDK Corporation; Package/Footprint: 0402; Dielectric: C0G, NP0; Supplier Part Number 1: 445-5585-1-ND; Supplier 1: Digi-Key; Mounting Type: SMD
footprint CAP0402 (Chip Capacitor, Body 1x0.5mm, Height 0.35mm, IPC Medium Density)
pins: 1, 2

## CAP_14pF_50V_0603
designator C?  value 14pF  Voltage Rating: 50V
CAP CER 14PF 50V C0G/NP0 0603; Manufacturer 1: Samsung; Manufacturer Part Number 1: CL10C140JB8NNNC; Dielectric: C0G; Supplier 1: Digi-Key; Mounting Type: SMD; Supplier Part Number 1: 1276-2187-1-ND; Package: 0603
footprint CAP0603
pins: 1, 2

## CAP_15pF_50V_0805
designator C?  value 15pF  Voltage Rating: 50V
CAP CER 15PF 50V C0G/NP0 0805; Manufacturer 1: AVX Corporation; Manufacturer Part Number 1: 08055A150JAT2A; Package/Footprint: 0805; Supplier 1: Digi-Key; Supplier Part Number 1: 478-1306-1-ND
footprint CAP0805 (Chip Capacitor, Body 2.0x1.2mm, Height 0.45mm, IPC Medium Density)
pins: 1, 2

## CAP_22uF_6.3V_0805
designator C?  value 22μF  Voltage Rating: 6.3V
CAP CER 22UF 6.3V X5R 0805; Manufacturer 1: Murata Electronics; Manufacturer Part Number 1: GRM188R60J226MEA0D; Dielectric: X5R; Supplier 1: Digi-Key; Supplier Part Number 1: 490-7611-2-ND
footprint CAP2012
pins: 1, 2
text: 0805

## CAP_22uF_10V_0603
designator C?  value 22μF  Voltage Rating: 10V
CAP CER 22UF 10V X5R 0603; Manufacturer: Taiyo Yuden; Manufacturer Part Number: LMK107BBJ226MA-T; Supplier 1: Digi-Key; Supplier Part Number 1: 587-4913-1-ND; Package: 0603
footprint CAP0603
pins: 1, 2

## CAP_22uF_16V_0805
designator C?  value 22μF  Voltage Rating: 16V
CAP CER 22UF 16V X5R 0805; Manufacturer 1: Murata Electronics; Manufacturer Part Number 1: GRM219R61C226ME15L; Package/Footprint: 0805; Mounting Type: SMD; Supplier 1: Digi-Key; Supplier Part Number 1: 490-9952-1-ND; Dielectric: X5R
footprint CAP2012
pins: 1, 2

## CAP_22uF_25V_1210
designator C?  value 22μF  Voltage Rating: 25V
CAP CER 22UF 25V X7R 1210; Manufacturer 1: Murata Electronics; Manufacturer Part Number 1: GRM32ER71E226ME15K; Package/Footprint: 1210; Supplier 1: Digi-Key; Supplier Part Number 1: 490-14682-1-ND; Mounting Type: SMD
footprint CAPC3225X270N
pins: 1, 2

## CAP_22uF_50V_POL
designator C?  value 22μF  Voltage Rating: 50V
CAP ALUM 22UF 20% 50V RADIAL; Manufacturer 1: Würth Elektronik; Manufacturer Part Number 1: 860020672011; Package/Footprint: TH; Supplier Part Number 1: 732-8857-1-ND; Supplier 1: Digi-Key; Mounting Type: TH; LCSC Part #: *
footprint CAPR-2/4h6.8
pins: 1, 2
1 alternate drawing of the same symbol

## CAP_22uF_80V_ALUM
designator C?  value 22µF  Voltage Rating: 80V
CAP ALUM POLY 22UF 20% 80V SMD; Manufacturer 1: KEMET; Manufacturer Part Number 1: A767KN226M1KLAE045; Mounting Type: SMD; Supplier 1: Digi-Key; Supplier Part Number 1: 399-15649-1-ND
footprint RADIAL_KEMET_KN
pins: 1, 2

## CAP_33pF_25V_0402
designator C?  value 33pF  Voltage Rating: 25V
CAP CER 33PF 25V C0G/NP0 0402; Manufacturer 1: AVX Corporation; Manufacturer Part Number 1: 04023A330JAT2A; Dielectric: C0G; Supplier 1: Digi-Key; Mounting Type: SMD; Supplier Part Number 1: 478-12613-1-ND; Package: 0402
footprint CAP0402 (Chip Capacitor, Body 1x0.5mm, Height 0.35mm, IPC Medium Density)
pins: 1, 2

## CAP_33pF_50V_0603
designator C?  value 33pF  Voltage Rating: 50V
CAP CER 33PF 50V C0G/NP0; Manufacturer 1: Yageo; Manufacturer Part Number 1: CC0603JRNPO9BN330; Package/Footprint: 0603; Dielectric: C0G; Supplier 1: Digi-Key; Mounting Type: SMD; Supplier Part Number 1: 311-1064-1-ND
footprint CAP0603
pins: 1, 2

## CAP_33pF_50V_0805
designator C?  value 33pF  Voltage Rating: 50V
CAP CER 33PF 50V C0G/NP0 0805; Manufacturer 1: Samsung Electro-Mechanics; Manufacturer Part Number 1: CL21C330JBANNNC; Dielectric: C0G/NP0; Mounting Type: SMD; Supplier 1: Digi-Key; Supplier Part Number 1: 1276-1105-1-ND; Package: 0805
pins: 1, 2

## CAP_39uF_35V_ALUM
designator C?  value 39μF  Voltage Rating: 35V
CAP ALUM POLY 39UF 20% 35V SMD; Manufacturer 1: Panasonic; Manufacturer Part Number 1: 35SVPF39M; Supplier 1: Digi-Key; Supplier Part Number 1: P16561CT-ND
footprint RADIAL_PANASONIC_E7 (Size E7 radial surface mount capacitor)
pins: 1, 2

## CAP_47pF_100V_0603
designator C?  value 47pF  Voltage Rating: 100V
CAP CER 47PF 100V C0G/NP0 0603; Manufacturer Part Number 1: C0603C470J1GACTU; Manufacturer 1: KEMET; Dielectric: C0G, NP0; Supplier Part Number 1: 399-7917-1-ND; Supplier 1: Digi-Key
footprint CAP0603
pins: 1, 2
text: 0603

## CAP_47pF_100V_0805
designator C?  value 47pF  Voltage Rating: 100V
CAP CER 47PF 100V NPO 0805; Manufacturer 1: Yageo; Manufacturer Part Number 1: AC0805JRNPO0BN470; Package/Footprint: 0805; Supplier 1: Digi-Key; Mounting Type: SMD; Supplier Part Number 1: 311-3131-1-ND
footprint CAP2012
pins: 1, 2

## CAP_47uF_25V_ALUM
designator C?  Voltage: 25V  Capacitance: 47µF
CAP ALUM POLY 47UF 20% 25V SMD; Manufacturer 1: Panasonic Electronic Components; Manufacturer Part Number 1: 25SVPF47M; Supplier 1: Digi-Key; Mounting Type: SMD; Package/Footprint: SMD; Supplier Part Number 1: P16513CT-ND; Verified: No; LCSC Part #: *
footprint 25SVPF47M (Aluminum Electrolytic Capacitor, Body 6.60x6.60x6.10mm, IPC Low Density)
pins: 1, 2

## CAP_47uF_35V_ALUM
designator C?  value 47µF  Voltage Rating: 35V
CAP ALUM POLY HYB 47UF 35V SMD; Manufacturer 1: Cornell Dubilier Electronics (CDE); Manufacturer Part Number 1: HZA476M035D16T-F; Supplier 1: Digi-Key; Supplier Part Number 1: HZA476M035D16T-FCT-ND; Mounting Type: SMD; Package/Footprint: SMD
footprint RADIAL_CORNELL_D
pins: 1, 2

## CAP_56pF_50V_0805
designator C?  value 56pF  Voltage Rating: 50V
CAP CER 56PF 50V C0G/NP0; Manufacturer 1: Yageo; Manufacturer Part Number 1: CC0805FRNPO9BN560; Dielectric: C0G, NP0; Supplier 1: Digi-Key; Supplier Part Number 1: 311-4179-1-ND
footprint CAP2012
pins: 1, 2
text: 0805

## CAP_68uF_35V_ALUM
designator C?  value 68μF  Voltage Rating: 35V
CAP ALUM 68UF 20% 35V SMD; Manufacturer 1: Nichicon; Manufacturer Part Number 1: UUD1V680MCL1GS; Supplier 1: Digi-Key; Mounting Type: SMD; Supplier Part Number 1: 493-2289-1-ND; Package/Footprint: SMD
footprint RADIAL_NICHION_1V (Size G radial surface mount capacitor)
pins: 1, 2

## CAP_100pF_50V_0402
designator C?  Capacitance: 100pF  Voltage: 50V
CAP CER 100PF 50V X7R 0402; Manufacturer 1: AVX Corporation; Manufacturer Part Number 1: 04025C101KAT2A; Supplier 1: Digi-Key; Supplier Part Number 1: 478-1089-1-ND; Package: 0402
footprint CAP0402 (Chip Capacitor, Body 1x0.5mm, Height 0.35mm, IPC Medium Density)
pins: 1, 2

## CAP_100pF_50V_0603
designator C?  value 100pF  Voltage Rating: 50V
CAP CER 100PF 50V C0G/NP0 0603; Manufacturer Part Number 1: VJ0603A101JXAAC; Manufacturer 1: Vishay Vitramon; Dielectric: C0G, NP0; Supplier Part Number 1: 720-1370-1-ND; Supplier 1: Digi-Key
footprint CAP0603
pins: 1, 2
text: 0603

## CAP_100pF_50V_0805
designator C?  value 100pF  Voltage Rating: 50V
CAP CER 100PF 50V C0G/NP0 0805; Manufacturer 1: KEMET; Manufacturer Part Number 1: C0805C101J5GACTU; Package/Footprint: 0805; Dielectric: C0G, NP0; Mounting Type: SMD; Supplier 1: Digi-Key; Supplier Part Number 1: 399-1122-1-ND
footprint CAP2012
pins: 1, 2

## CAP_100uF_35V_ALUM
designator C?  value 100µF  Voltage Rating: 35V
CAP ALUM 100UF 20% 35V SMD; Manufacturer 1: Rubycon; Manufacturer Part Number 1: 35TKV100M8X10.5; Mounting Type: SMD; Package/Footprint: SMD; Supplier 1: Digi-Key; Supplier Part Number 1: 1189-2074-1-ND
footprint RADIAL_CORNELL_D (Size D radial surface mount capacitor)
pins: 1, 2

## CAP_120pF_50V_0402
designator C?  Capacitance: 120pF  Voltage: 50V
CAP CER 120PF 50V X7R 0402; Manufacturer 1: AVX Corporation; Manufacturer Part Number 1: 04025C121KAT2A; Supplier 1: Digi-Key; Supplier Part Number 1: 478-1090-1-ND; Package: 0402
footprint CAP0402 (Chip Capacitor, Body 1x0.5mm, Height 0.35mm, IPC Medium Density)
pins: 1, 2

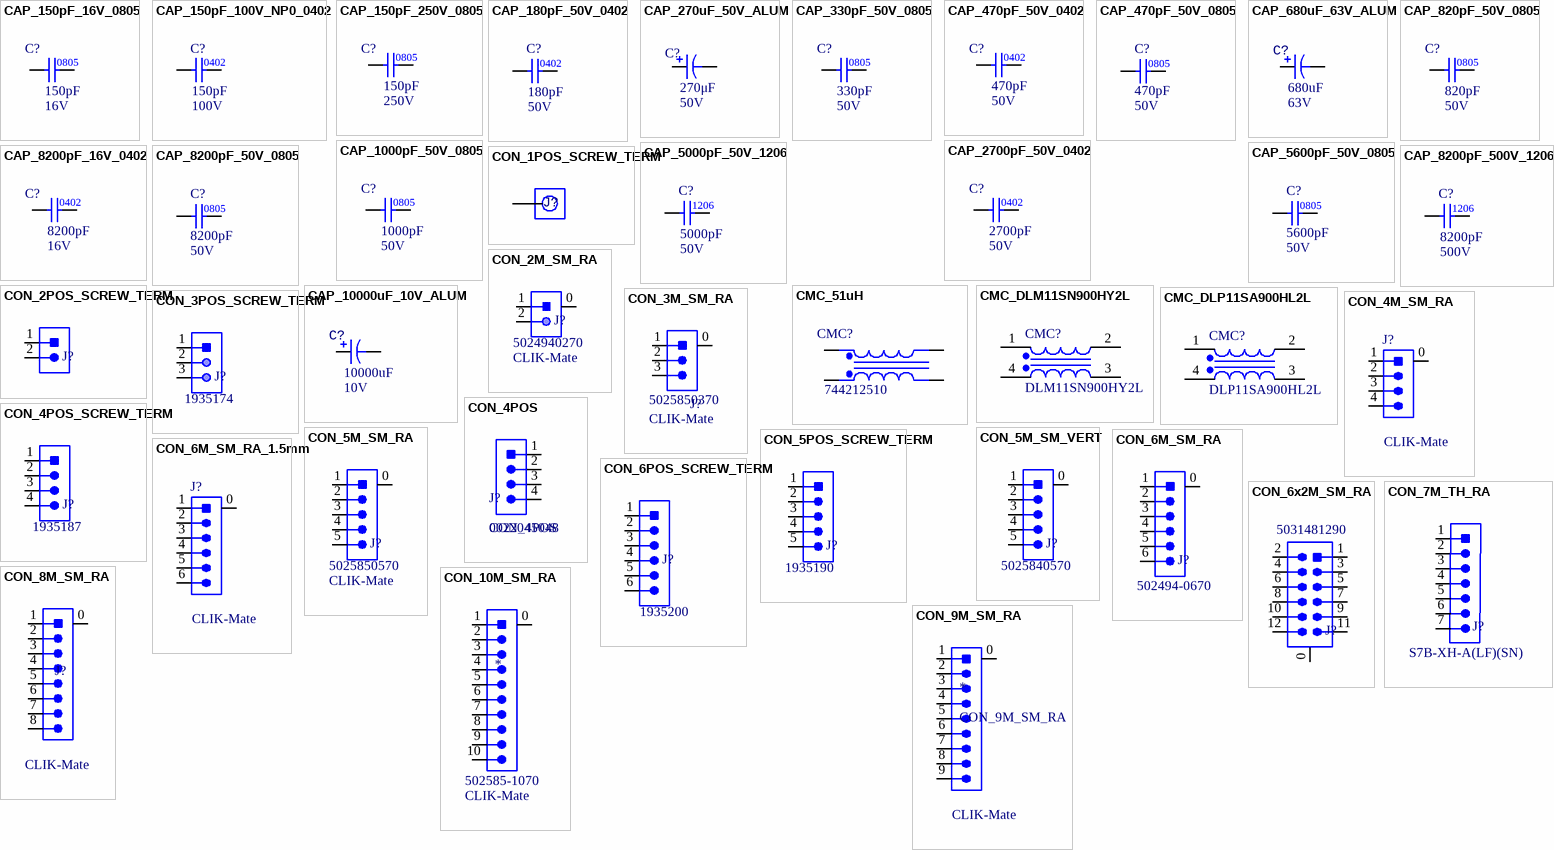
[diagram p3: symbols CAP_150pF_16V_0805 to CON_10M_SM_RA]

## CAP_150pF_16V_0805
designator C?  value 150pF  Voltage Rating: 16V
CAP CER 150PF 16V X7R 0805; Manufacturer 1: Würth Elektronik; Manufacturer Part Number 1: 885012207028; Package/Footprint: 0805; Supplier 1: Digi-Key; Supplier Part Number 1: 732-8028-1-ND
footprint CAP0805 (Chip Capacitor, Body 2.0x1.2mm, Height 0.45mm, IPC Medium Density)
pins: 1, 2

## CAP_150pF_100V_NP0_0402
designator C?  Capacitance: 150pF  Rated DC Voltage (URdc): 100V
CAP CER 150PF 100V C0G/NP0 0402; Manufacturer: Yageo; Manufacturer Part Number: CGA2B2C0G2A151J050BE; Dielectric: X7R; Supplier 1: Digi-Key; Supplier Part Number 1: 445-175654-1-ND; RoHS: Yes; Category: Ceramic Capacitors; Mount: Surface Mount; Package: 0402
footprint CAP0402 (Chip Capacitor, Body 1x0.5mm, Height 0.35mm, IPC Medium Density)
pins: 1, 2

## CAP_150pF_250V_0805
designator C?  value 150pF  Voltage Rating: 250V
CAP CER 150PF 250V C0G/NP0 0805; Manufacturer 1: Murata Electronics; Manufacturer Part Number 1: GRM21A5C2E151JW01D; Dielectric: C0G, NP0; Supplier 1: Digi-Key; Supplier Part Number 1: 490-12755-1-ND
footprint CAP2012
pins: 1, 2
text: 0805

## CAP_180pF_50V_0402
designator C?  Capacitance: 180pF  Voltage: 50V
CAP CER 180PF 50V X7R 0402; Manufacturer 1: AVX Corporation; Manufacturer Part Number 1: 04025C181KAT2A; Supplier 1: Digi-Key; Supplier Part Number 1: 478-1092-1-ND; Package: 0402
footprint CAP0402 (Chip Capacitor, Body 1x0.5mm, Height 0.35mm, IPC Medium Density)
pins: 1, 2

## CAP_270uF_50V_ALUM
designator C?  value 270μF  Voltage Rating: 50V
CAP ALUM 270uF 50VDC 20% SMD; Manufacturer 1: Panasonic Electronic Components; Manufacturer Part Number 1: EEE-FN1H271UP; Supplier 1: Digi-Key; Mounting Type: SMD; Supplier Part Number 1: 10-EEE-FN1H271UPCT-ND
footprint RADIAL_PANASONIC_G (Size G radial surface mount capacitor)
pins: 1, 2

## CAP_330pF_50V_0805
designator C?  value 330pF  Voltage Rating: 50V
CAP CER 330PF 50V C0G/NPO 0805; Manufacturer 1: Yageo; Manufacturer Part Number 1: CC0805JRNPO9BN331; Package/Footprint: 0805; Supplier 1: Digi-Key; Supplier Part Number 1: 311-1117-1-ND
footprint CAP0805 (Chip Capacitor, Body 2.0x1.2mm, Height 0.45mm, IPC Medium Density)
pins: 1, 2

## CAP_470pF_50V_0402
designator C?  Voltage Rating: 50V  Capacitance: 470pF
CAP CER 470PF 50V X7R 0402; Manufacturer 1: Murata; Manufacturer Part Number 1: GRM155R71H471KA01D; Package/Footprint: 0402; Supplier 1: Digi-Key; Dielectric: X7R; Supplier Part Number 1: 490-1300-1-ND
footprint CAP 0402_1005 (Chip Capacitor, 2-Leads, Body 1.02x0.51mm, IPC Medium Density)
pins: 1, 2

## CAP_470pF_50V_0805
designator C?  value 470pF  Voltage Rating: 50V
CAP CER 470PF 50V X7R 0805; Manufacturer 1: Kyocera AVX; Manufacturer Part Number 1: 08055C471JAT2A; Package/Footprint: 0805; Supplier 1: Digi-Key; Mounting Type: SMD; Supplier Part Number 1: 478-7958-1-ND; Dielectric: X7R
footprint CAP2012
pins: 1, 2

## CAP_680uF_63V_ALUM
designator C?  value 680uF  Voltage Rating: 63V
CAP ALUM 680UF 20% 63V RADIAL; Manufacturer 1: United Chemi-Con; Manufacturer Part Number 1: ELXZ630ELL681MM20S; Supplier 1: Digi-Key; Voltage: 63V; Supplier Part Number 1: 565-2050-ND; Mounting Type: SMD
footprint ELXZ630ELL681MM20S (CAP ALUM 680UF 20% 63V RADIAL)
pins: 1, 2

## CAP_820pF_50V_0805
designator C?  Capacitance: 820pF  Voltage Rating: 50V
CAP CER 820PF 50V C0G/NP0 0805; Manufacturer 1: KEMET; Manufacturer Part Number 1: C0805X821J5GAC7800; Package/Footprint: 0805; Supplier 1: Digi-Key; Supplier Part Number 1: 399-19481-1-ND
footprint CAP0805 (Chip Capacitor, Body 2.0x1.2mm, Height 0.45mm, IPC Medium Density)
pins: 1, 2

## CAP_1000pF_50V_0805
designator C?  value 1000pF  Voltage Rating: 50V
CAP CER 1000pF 50V X7R 0805; Manufacturer 1: Samsung; Manufacturer Part Number 1: CL21B102KBANNNC; Package/Footprint: 0805; Supplier 1: Digi-Key; Mounting Type: SMD; Supplier Part Number 1: 1276-1020-1-ND; Dielectric: X7R
footprint CAP2012
pins: 1, 2

## CAP_2700pF_50V_0402
designator C?  Capacitance: 2700pF  Voltage Rating: 50V
CAP CER 2700PF 50V C0G 0805; Manufacturer 1: TDK Corporation; Manufacturer Part Number 1: C2012C0G1H272J060AA; Package: 0805; Supplier 1: Digi-Key; Supplier Part Number 1: 445-7508-1-ND
footprint CAP0402 (Chip Capacitor, Body 1x0.5mm, Height 0.35mm, IPC Medium Density)
pins: 1, 2
text: 0402

## CAP_5000pF_50V_1206
designator C?  Voltage Rating: 50V  Capacitance: 5000pF
CAP CER 5000pF 50V X7R 1206; Manufacturer 1: Kyocera AVX; Manufacturer Part Number 1: 12065C502JAT2A; Supplier 1: Digi-Key; Supplier Part Number 1: 478-11953-1-ND; Dielectric: X7R
footprint CAP1206 (Chip Capacitor, Body 3.2x1.6mm, Height 0.55mm, IPC Medium Density)
pins: 1, 2
text: 1206

## CAP_5600pF_50V_0805
designator C?  Capacitance: 5600pF  Voltage Rating: 50V
CAP CER 5600PF 50V C0G 0805; Manufacturer 1: TDK Corporation; Manufacturer Part Number 1: CGA4C2C0G1H562J060AA; Package/Footprint: 0805; Mounting Type: SMD; Supplier 1: Digi-Key; Supplier Part Number 1: 445-6944-1-ND; Dielectric: C0G
pins: 1, 2

## CAP_8200pF_16V_0402
designator C?  Voltage Rating: 16V  Capacitance: 8200pF
CAP CER 8200PF 16V X7R 0402; Manufacturer 1: Murata; Manufacturer Part Number 1: GRM155R71C822KA01D; Dielectric: X7R; Supplier 1: Digi-Key; Supplier Part Number 1: 490-6338-1-ND; Package: 0402
footprint CAP0402 (Chip Capacitor, Body 1x0.5mm, Height 0.35mm, IPC Medium Density)
pins: 1, 2

## CAP_8200pF_50V_0805
designator C?  Capacitance: 8200pF  Voltage Rating: 50V
CAP CER 8200PF 50V X7R 0805; Mounting Type: SMD; Package: 0805; Supplier 1: Digi-Key; Supplier Part Number 1: 478-9924-6-ND; Dielectric: X7R
footprint CAP2012
pins: 1, 2

## CAP_8200pF_500V_1206
designator C?  value 8200pF  Voltage Rating: 500V
CAP CER 8200PF 500V C0G 1206; Manufacturer 1: KEMET; Manufacturer Part Number 1: C1206C822JCGACAUTO; Dielectric: C0G, NP0; Supplier 1: Digi-Key; Supplier Part Number 1: 399-14847-1-ND
footprint CAP1206 (Chip Capacitor, Body 3.2x1.6mm, Height 0.55mm, IPC Medium Density)
pins: 1, 2
text: 1206

## CAP_10000uF_10V_ALUM
designator C?  value 10000uF  Voltage Rating: 10V
CAP ALUM 10000UF 20% 10V RADIAL; Manufacturer 1: Nichicon; Manufacturer Part Number 1: URS1A103MHD1TN; Supplier 1: Digi-Key; Mounting Type: TH; Package: TH; Supplier Part Number 1: 493-12364-1-ND; Verified: No
footprint CAP_UBY_18X25_NC
pins: 1, 2

## CMC_51uH
designator CMC?  Manufacturer Part Number 1: 744212510  (hidden comment: CMC_51uH)
CMC 51uH 300MA 2LN SMD; Manufacturer 1: Wurth Electronics; DC Resistance (DCR): 160mR; Test Frequency: 100kHz; Inductance Tolerance: 50%; Voltage Rating (DC): 80V; Number of Lines: 2; Impedance: 300R; Supplier 1: Digi-Key; Package/Footprint: SMD; Number of Pins: 4; Current: 300mA; Max DC Current: 300mA; Mounting Type: SMD; Current Rating: 300mA; Inductance: 51uH; ComponentLink7URL: https://datasheet.ciiva.com/6216/744212510-6216348.pdf?src-supplier=Digi-Key; ComponentLink7Description: https://datasheet.ciiva.com/6216/744212510-6216348.pdf?src-supplier=Digi-Key; ComponentLink8URL: https://datasheet.ciiva.com/7764/1735560-7764951.pdf?src-supplier=Element14; ComponentLink8Description: https://datasheet.ciiva.com/7764/1735560-7764951.pdf?src-supplier=Element14; Supplier Part Number 1: 732-3941-1-ND
footprint 744212510 (CMC HORIZONTAL 4 J-LEAD)
pins: 1 Pri+, 3 Sec+, 4 Sec-, 5 Pri-

## CMC_DLM11SN900HY2L
designator CMC?  Manfuacturer Part Number 1: DLM11SN900HY2L
CMC 100MA 2LN 90 OHM SMD; Manufacturer 1: Murata Electronics; DC Resistance (DCR) (Max): 1.38Ohm; Voltage Rating - DC: 5V; Supplier 1: Digi-Key; Supplier Part Number 1: 490-11941-1-ND; Current Rating (Max): 100mA; Package: 0504
footprint FIL_DLM11SN900HY2L
pins: 1, 2, 3, 4

## CMC_DLP11SA900HL2L
designator CMC?  Manfuacturer Part Number 1: DLP11SA900HL2L
CMC 150MA 2LN 90 OHM SMD; Manufacturer 1: Murata Electronics; DC Resistance (DCR) (Max): 1.75Ohm; Voltage Rating - DC: 5V; Supplier 1: Digi-Key; Supplier Part Number 1: 490-6035-1-ND; Current Rating (Max): 150mA; Package: 0504
footprint FIL_DLP11SA900HL2L
pins: 1, 2, 3, 4

## CON_1POS_SCREW_TERM
designator J?  (value not drawn)
TERM SCREW 6-32 4 PIN PCB; Manufacturer 1: Keystone Electronics; Manufacturer Part Number 1: 7701; Package/Footprint: TH; Supplier 1: Digi-Key; Mounting Type: TH; Supplier Part Number 1: 36-7701-ND
footprint 7701_KEYSTONE (Through hole screw terminal footprint)
pins: 1

## CON_2M_SM_RA
designator J?  Family: CLIK-Mate  Manufacturer Part Number 1: 5024940270  (hidden comment: CON_2M_SM_RA)
CONN HEADER SMD RIGHT ANGLE 2MM PITCH; Manufacturer 1: Molex; Supplier 1: Digi-Key; Supplier Part Number 1: WM15810CT-ND
footprint MOLEX-5024940270 (Molex 5024940670 2 pin SMD RA connector)
pins: 0, 1, 2

## CON_2POS_SCREW_TERM
designator J?  (value not drawn)
TERM BLK 2POS SIDE ENTRY 5MM; Manufacturer 1: Phoenix Contact; Manufacturer Part Number 1: 1935161; Package/Footprint: SMD; Supplier 1: Digi-Key; Mounting Type: TH; Supplier Part Number 1: 277-1667-ND
footprint 1935161
pins: 1, 2

## CON_3M_SM_RA
designator J?  Family: CLIK-Mate  Manufacturer Part Number 1: 5025850370  (hidden comment: CON_3M_SM_RA)
CONN RCPT 3POS 0.059 TIN SMD R/A; Manufacturer 1: Molex; Current Rating: 2A; Voltage Rating: 100V; Pitch: 1.5mm; Supplier 1: Digi-Key; Mounting Type: SMD; Package/Footprint: SMD; Orientation: Right Angle; Supplier Part Number 1: WM12831CT-ND
footprint MOLEX-5025850370
pins: 0, 1, 2, 3

## CON_3POS_SCREW_TERM
designator J?  Manufacturer Part Number 1: 1935174  (hidden comment: CON_3POS_SCREW_TERM)
TERM BLK 3POS SIDE ENTRY 5MM; Manufacturer 1: Phoenix Contact; Package/Footprint: TH; Voltage Rating: 250V; Current Rating: 17.5A; Supplier 1: Digi-Key; Mounting Type: TH; Orientation: Straight; Pitch: 5mm; Supplier Part Number 1: 277-1578-ND
footprint 1935174 (5 MM PITCH)
pins: 1, 2, 3

## CON_4M_SM_RA
designator J?  Family: CLIK-Mate  (hidden comment: CON_4M_SM_RA)
CONN HEADER SMD RIGHT ANGLE 1.5 MM PITCH; Supplier 1: Digi-Key; Supplier Part Number 1: WM9449CT-ND; Package/Footprint: SMD; Mounting Type: SMD
footprint MOLEX-5025850470
pins: 0, 1, 2, 3, 4

## CON_4POS
designator J?  Manufacturer Part Number: 0022045048
CONN HEADER VERT 4POS 2.54MM; Manufacturer: Molex; Supplier 1: Digi-Key; Supplier Part Number 1: 0022045048-ND; RoHS: Yes; Category: Headers and Wire Housings; Pricing 1: 16000=0.12858 (USD); ComponentLink1URL: https://datasheet.ciiva.com/6839/022045032-sd-6839882.pdf?src-supplier=Digi-Key; ComponentLink1Description: https://datasheet.ciiva.com/6839/022045032-sd-6839882.pdf?src-supplier=Digi-Key
pins: 1   , 2, 3, 4

## CON_4POS_SCREW_TERM
designator J?  Manufacturer Part Number 1: 1935187  (hidden comment: CON_4POS_SCREW_TERM)
TERM BLK 4POS SIDE ENTRY 5MM; Manufacturer 1: Phoenix Contact; Wire Gauge: 12-26AWG; Package/Footprint: TH; Screw Thread: M2.6; Supplier Part Number 1: 277-1579-ND; Supplier 1: Digi-Key; Pitch: 5mm; Mounting Type: TH
footprint 1935187
pins: 1, 2, 3, 4

## CON_5M_SM_RA
designator J?  Family: CLIK-Mate  Manufacturer Part Number 1: 5025850570  (hidden comment: CON_5M_SM_RA)
CONN HEADER SMD RIGHT ANGLE 1.5MM PITCH; Manufacturer 1: Molex; Current Rating: 2A; Supplier 1: Digi-Key; Mounting Type: SMD; Orientation: Right Angle; Supplier Part Number 1: WM14469CT-ND; Package/Footprint: SMD
footprint MOLEX-5025850570
pins: 0, 1, 2, 3, 4, 5

## CON_5M_SM_VERT
designator J?  Manufacturer Part Number 1: 5025840570  (hidden comment: CON_5M_SM_VERT)
CONN HEADER SMD VERTICAL 1.5MM PITCH; Manufacturer 1: Molex; Current Rating: 2A; Voltage Rating: 100V; Supplier 1: Digi-Key; Orientation: Vertical; Pitch: 1.5mm; Supplier Part Number 1: WM14463CT-ND
footprint MOLEX-5025840570 (Molex 5024940670 12 pin 1.5 mm pitch SMD vertical connector)
pins: 0, 1, 2, 3, 4, 5

## CON_5POS_SCREW_TERM
designator J?  Manufacturer Part Number 1: 1935190  (hidden comment: CON_5POS_SCREW_TERM)
TERM BLK 5POS SIDE ENTRY 5MM; Manufacturer 1: Phoenix Contact; Package/Footprint: TH; Supplier 1: Digi-Key; Mounting Type: TH; Supplier Part Number 1: 277-1580-ND
footprint 1935190
pins: 1, 2, 3, 4, 5

## CON_6M_SM_RA
designator J?  Manufacturer Part Number 1: 502494-0670  (hidden comment: CON_6M_SM_RA)
CONN HEADER SMD RIGHT ANGLE 2MM PITCH; Manufacturer 1: Molex; Current Rating: 3A; Voltage Rating: 250V; Supplier 1: Digi-Key; Orientation: Right Angle; Pitch: 2mm; Supplier Part Number 1: WM2283CT-ND
footprint MOLEX-5024940670 (Molex 5024940670 6 pin 2mm pitch SMD RA connector)
pins: 0, 1, 2, 3, 4, 5, 6

## CON_6M_SM_RA_1.5mm
designator J?  Family: CLIK-Mate  (hidden comment: CON_6M_SM_RA_1.5mm)
CONN HEADER SMD RIGHT ANGLE 1.5 MM PITCH; Supplier 1: Digi-Key; Supplier Part Number 1: WM12832CT-ND; Package/Footprint: SMD; Mounting Type: SMD
footprint MOLEX-5025850670
pins: 0, 1, 2, 3, 4, 5, 6

## CON_6POS_SCREW_TERM
designator J?  Manufacturer Part Number 1: 1935200  (hidden comment: CON_6POS_SCREW_TERM)
TERM BLK 6POS SIDE ENTRY 5MM; Manufacturer 1: Phoenix Contact; Wire Gauge: 12-26AWG; Package/Footprint: TH; Screw Thread: M2.6; Supplier Part Number 1: 277-1581-ND; Supplier 1: Digi-Key; Pitch: 5mm; Mounting Type: TH
footprint 1935200
pins: 1, 2, 3, 4, 5, 6

## CON_6x2M_SM_RA
designator J?  Manufacturer Part Number 1: 5031481290  (hidden comment: CON_6x2M_SM_RA)
CONN HEADER SMD RIGHT ANGLE 1.5MM PITCH; Manufacturer 1: Molex; Voltage Rating: 100V; Current Rating: 1A; Supplier 1: Digi-Key; Mounting Type: SMD; Package/Footprint: SMD; Orientation: Right Angle; Pitch: 1.5mm; Supplier Part Number 1: WM14476CT-ND
footprint MOLEX-5031481290 (Molex 5024940670 12 pin 1.5 mm pitch SMD RA connector)
pins: 0, 1, 2, 3, 4, 5, 6, 7, 8, 9, 10, 11, 12

## CON_7M_TH_RA
designator J?  Manufacturer Part Number 1: S7B-XH-A(LF)(SN)  (hidden comment: CON_7M_TH_RA)
CONN HEADER XH SIDE 7POS 2.5MM; Manufacturer 1: JST Sales America Inc.; Current Rating: 3A; Voltage Rating: 250V; Supplier 1: Digi-Key; Orientation: Right Angle; Pitch: 2.5mm; Supplier Part Number 1: 455-2240-ND
footprint JST_S7B-XH-A(LF)(SN)
pins: 1, 2, 3, 4, 5, 6, 7 6

## CON_8M_SM_RA
designator J?  Family: CLIK-Mate  (hidden comment: CON_8M_SM_RA)
CONN HEADER SMD RIGHT ANGLE 1.5 MM PITCH; Current Rating: 2A; Voltage Rating: 100V; Pitch: 1.5mm; Supplier 1: Digi-Key; Mounting Type: SMD; Package/Footprint: SMD; Orientation: Right Angle; Supplier Part Number 1: WM14471CT-ND
footprint MOLEX-5025850870
pins: 0, 1, 2, 3, 4, 5, 6, 7 6, 8 6